# EAGLE library part MCP73213 (library ds_ic_vreg)
The MCP73213 is a dual cell, highly integrated Li-Ion battery charge management controller for use in space-limited and cost-sensitive applications. The MCP73213 can accept an absolute maximum of 18V input and provides a 13V overvoltage protection. The output current can be programmabed to be between 130 mA and 1100 mA.
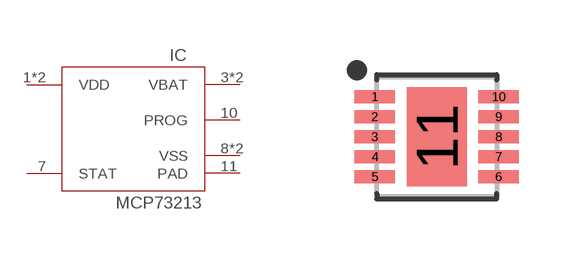
[diagram p23: symbol with the pads of SON50P300X300X90-11T150X248N; footprint SON50P300X300X90-11T150X248N]

Designator prefix IC

## MCP73213DFN  [SON50P300X300X90-11T150X248N]
1  VDD
2  VDD
3  VBAT
4  VBAT
7  STAT
8  VSS
9  VSS
10  PROG
11  PAD

## Footprint SON50P300X300X90-11T150X248N (pad centres in mm)
10-SON (DFN), 0.50 mm pitch, 3.00 X 3.00 X 0.90 mm body, 2.48 X 1.50 mm thermal pad 10-pin SON (DFN) package with 0.50 mm pitch with body size 3.00 X 3.00 X 0.90 mm and thermal pad size 2.48 X 1.50 mm
smd 1.012 x 0.332: 1 -1.55,1; 2 -1.55,0.5; 3 -1.55,0; 4 -1.55,-0.5; 5 -1.55,-1; 6 1.55,-1; 7 1.55,-0.5; 8 1.55,0; 9 1.55,0.5; 10 1.55,1
smd 1.5 x 2.48: 11 0,0